# Altium footprint library DPC_ICE_UP11.PcbLib: 27 footprints (part 2 of 2)
Each footprint in its own frame and in the unit in brackets; x right, y up, seen from the top. Pads: shape width x height; smd on the part's side, far side on the other; paste and mask are expansions set on the pad; w line width, h text height; cw(c..) or ccw(c..) is an arc to the next point about the centre after c.
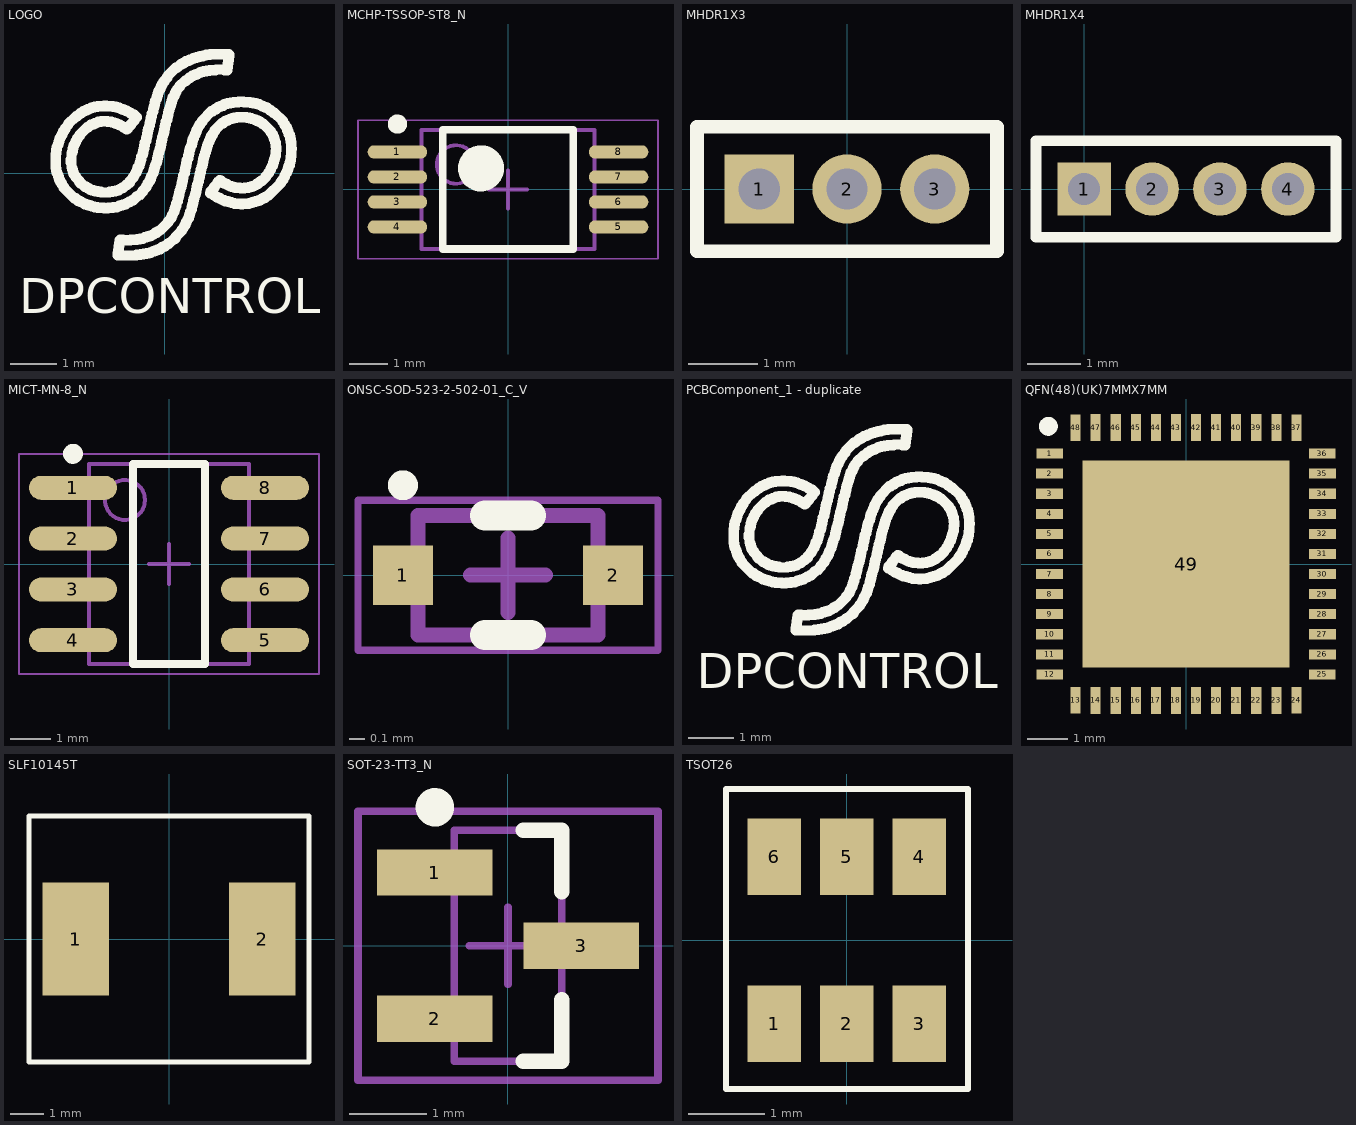
[diagram p1: the footprints below, top view; thin cyan lines are the x and y axes]

## LOGO [mm]
height 0.68
Top Overlay:
  drawing of 962 lines, arcs and shapes, not listed
  text "DPCONTROL" at -3.175,-3.048 h0.76

## MCHP-TSSOP-ST8_N [mm] "SOP, 8-Leads, Body 4.4x3mm, Pitch 0.65mm, IPC Medium Density"
height 1.2
pads (8):
  oval 1.55x0.35 smd mask+0.051: 1(-2.875,0.975) 2(-2.875,0.325) 3(-2.875,-0.325) 4(-2.875,-0.975) 5(2.875,-0.975) 6(2.875,-0.325) 7(2.875,0.325) 8(2.875,0.975)
Top Overlay:
  circle w0.25: c-2.875,1.7 r0.125
  circle w0.6: c-0.7,0.55 r0.3
  lines w0.2: -1.7,-1.55 -1.7,1.55 1.7,1.55 1.7,-1.55 -1.7,-1.55
Mechanical 13:
  circle w0.1: c-1.35,0.65 r0.5
  lines w0.1: -2.25,-1.55 -2.25,1.55 2.25,1.55 2.25,-1.55 -2.25,-1.55
Mechanical 15:
  lines w0.05: -3.9,-1.8 -3.9,1.8 3.9,1.8 3.9,-1.8 -3.9,-1.8
  lines w0.1: -0.5,0 0.5,0 ; 0,-0.5 0,0.5
3D body: height 1.2, standoff 0.05, extent -2.25,-1.55 2.25,1.55

## MHDR1X3 [mm] "Connector; Header; 3 Position"
height 0.68
pads (3):
  rect 1x1 hole 0.6 mask+0.051: 1(-1.27,0)
  round 1 hole 0.6 mask+0.051: 2(0,0) 3(1.27,0)
Top Overlay:
  lines w0.2: -2.17,-0.9 -2.17,0.9 2.17,0.9 2.17,-0.9 -2.17,-0.9
3D body "1x3_.50.stp": height 5.2, standoff -2.9, extent -2.11,-1.1 2.11,1.1

## MHDR1X4 [mm] "Connector; Header; 4 Position"
height 0.68
pads (4):
  rect 1x1 hole 0.6 mask+0.051: 1(0,0)
  round 1 hole 0.6 mask+0.051: 2(1.27,0) 3(2.54,0) 4(3.81,0)
Top Overlay:
  lines w0.2: -0.9,-0.9 -0.9,0.9 4.71,0.9 4.71,-0.9 -0.9,-0.9
3D body "4X1.27SOCK.stp": height 4.1, standoff -2.3, extent -0.84,-1.092 4.65,1.108

## MICT-MN-8_N [mm] "SOIC, 8-Leads, Body 5x4mm, Pitch 1.27mm, IPC Medium Density"
height 0.68
pads (8):
  oval 2.2x0.6 smd: 1(-2.4,1.905) 2(-2.4,0.635) 3(-2.4,-0.635) 4(-2.4,-1.905) 5(2.4,-1.905) 6(2.4,-0.635) 7(2.4,0.635) 8(2.4,1.905)
Top Overlay:
  circle w0.25: c-2.4,2.755 r0.125
  lines w0.2: -0.9,-2.5 0.9,-2.5 0.9,2.5 -0.9,2.5 -0.9,-2.5
Mechanical 13:
  circle w0.1: c-1.1,1.6 r0.5
  lines w0.1: -2,-2.5 2,-2.5 2,2.5 -2,2.5 -2,-2.5
Mechanical 15:
  lines w0.05: -3.75,-2.75 3.75,-2.75 3.75,2.75 -3.75,2.75 -3.75,-2.75
  lines w0.1: -0.5,0 0.5,0 ; 0,-0.5 0,0.5
3D body: height 0.1, standoff 0, extent -2,-2.5 2,2.5

## ONSC-SOD-523-2-502-01_C_V [mm] "SOD, 2-Leads, Body 1.2x0.8mm"
height 0.7
pads (2):
  rect 0.4x0.4 smd: 1(-0.7,0) 2(0.7,0)
Top Overlay:
  circle w0.1: c-0.7,0.6 r0.05
  lines w0.2: -0.154,-0.4 0.154,-0.4 ; -0.154,0.4 0.154,0.4
Mechanical 13:
  lines w0.1: -0.6,-0.4 0.6,-0.4 0.6,0.4 -0.6,0.4 -0.6,-0.4
Mechanical 15:
  lines w0.05: -1,-0.5 1,-0.5 1,0.5 -1,0.5 -1,-0.5
  lines w0.1: -0.25,0 0.25,0 ; 0,-0.25 0,0.25
3D body: height 0.7, standoff 0, extent -0.6,-0.4 0.6,0.4

## PCBComponent_1 - duplicate [mm]
Top Overlay:
  drawing of 962 lines, arcs and shapes, not listed
  text "DPCONTROL" at 1309.116,1276.604 h0.76

## QFN(48)(UK)7MMX7MM [mm]
height 0.68
pads (49):
  rect 0.66x0.25 smd mask+0.038: 1(-3.4,2.75) 12(-3.4,-2.75) 25(3.4,-2.75) 36(3.4,2.75)
  rect 0.673x0.25 smd mask+0.038: 2(-3.4,2.25) 3(-3.4,1.75) 4(-3.4,1.25) 5(-3.4,0.75) 6(-3.4,0.25) 7(-3.4,-0.25) 8(-3.4,-0.75) 9(-3.4,-1.25) 10(-3.4,-1.75) 11(-3.4,-2.25) 26(3.4,-2.25) 27(3.4,-1.75) 28(3.4,-1.25) 29(3.4,-0.75) 30(3.4,-0.25) 31(3.4,0.25) 32(3.4,0.75) 33(3.4,1.25) 34(3.4,1.75) 35(3.4,2.25)
  rect 0.25x0.66 smd mask+0.038: 13(-2.75,-3.4) 24(2.75,-3.4) 37(2.75,3.4) 48(-2.75,3.4)
  rect 0.25x0.673 smd mask+0.038: 14(-2.25,-3.4) 15(-1.75,-3.4) 16(-1.25,-3.4) 17(-0.75,-3.4) 18(-0.25,-3.4) 19(0.25,-3.4) 20(0.75,-3.4) 21(1.25,-3.4) 22(1.75,-3.4) 23(2.25,-3.4) 38(2.25,3.4) 39(1.75,3.4) 40(1.25,3.4) 41(0.75,3.4) 42(0.25,3.4) 43(-0.25,3.4) 44(-0.75,3.4) 45(-1.25,3.4) 46(-1.75,3.4) 47(-2.25,3.4)
  rect 5.15x5.15 smd mask+0.038: 49(0,0)
Top Overlay:
  circle w0.254: c-3.429,3.429 r0.108
3D body "qfn-48_7x7x0.5.step": height 1, standoff 0, extent -3.525,-3.48 3.475,3.52

## SLF10145T [mm]
height 0.68
pads (2):
  rect 2x3.4 smd: 1(-2.794,0) 2(2.794,0)
Top Overlay:
  lines w0.15: -4.191,-3.683 4.191,-3.683 4.191,3.683 -4.191,3.683 -4.191,-3.683
3D body "45471.stp": height 4.25, standoff -0.25, extent -3.65,-3.617 3.65,3.683

## SOT-23-TT3_N [mm] "SOT23, 3-Leads, Body 2.9x1.3mm, Pitch 0.95mm, Lead Span 2.4mm, IPC Medium Density"
height 1.12
pads (3):
  rect 1.5x0.6 smd mask+0.051: 1(-0.95,0.95) 2(-0.95,-0.95) 3(0.95,0)
Top Overlay:
  circle w0.25: c-0.95,1.8 r0.125
  lines w0.2: 0.2,-1.5 0.7,-1.5 0.7,-0.7 ; 0.2,1.5 0.7,1.5 0.7,0.7
Mechanical 13:
  lines w0.1: -0.7,-1.5 0.7,-1.5 0.7,1.5 -0.7,1.5 -0.7,-1.5
Mechanical 15:
  lines w0.1: -0.5,0 0.5,0 ; 0,-0.5 0,0.5 ; -1.95,-1.75 1.95,-1.75 1.95,1.75 -1.95,1.75 -1.95,-1.75
3D body: height 1.12, standoff 0, extent -0.7,-1.5 0.7,1.5

## TSOT26 [mm]
height 0.68
pads (6):
  rect 0.7x1 smd mask+0.051: 1(-0.95,-1.095) 2(0,-1.095) 3(0.95,-1.095) 4(0.95,1.095) 5(0,1.095) 6(-0.95,1.095)
Top Overlay:
  lines w0.076: -1.585,-1.953 -1.585,1.984 1.59,1.984 1.59,-1.953 -1.585,-1.953
3D body "sot23-6.step": height 1, standoff 0, extent -1.5,-1.4 1.5,1.4